# EAGLE library part IC_MAX6921 (library untitled)
20-outputs, 76V, serial VFD driver Dangerousprototypes.com
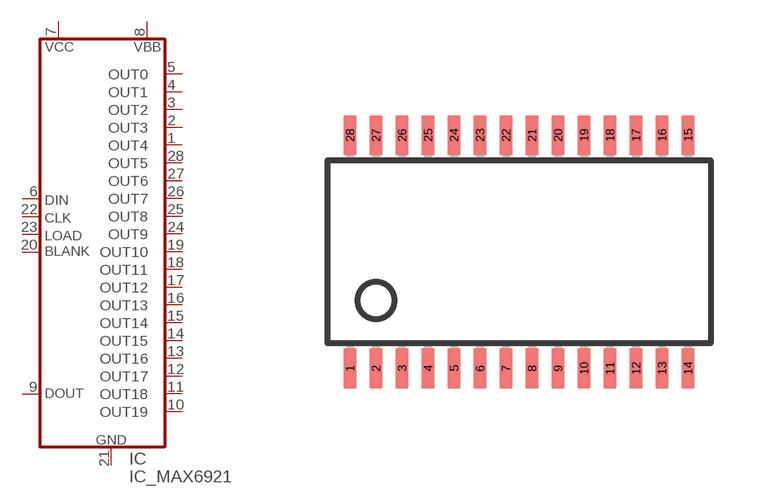
[diagram p25: symbol with the pads of TSSOP-28; footprint TSSOP-28]

Designator prefix IC

## IC_MAX6921-TSSOP28  [TSSOP-28]
1  OUT4  out
2  OUT3  out
3  OUT2  out
4  OUT1  out
5  OUT0  out
6  DIN  in
7  VCC  pwr
8  VBB  pwr
9  DOUT  out
10  OUT19  out
11  OUT18  out
12  OUT17  out
13  OUT16  out
14  OUT15  out
15  OUT14  out
16  OUT13  out
17  OUT12  out
18  OUT11  out
19  OUT10  out
20  BLANK  in
21  GND  pwr
22  CLK  in
23  LOAD  in
24  OUT9  out
25  OUT8  out
26  OUT7  out
27  OUT6  out
28  OUT5  out

## Footprint TSSOP-28 (pad centres in mm)
Thin Shrink Small Outline Plastic 28 (TSSOP28)
smd 0.305 x 0.991: 1 -4.225,-2.918; 2 -3.575,-2.918; 3 -2.925,-2.918; 4 -2.275,-2.918; 5 -1.625,-2.918; 6 -0.975,-2.918; 7 -0.325,-2.918; 8 0.325,-2.918; 9 0.975,-2.918; 10 1.625,-2.918; 11 2.275,-2.918; 12 2.925,-2.918; 13 3.575,-2.918; 14 4.225,-2.918; 15 4.225,2.918; 16 3.575,2.918; 17 2.925,2.918; 18 2.275,2.918; 19 1.625,2.918; 20 0.975,2.918; 21 0.325,2.918; 22 -0.325,2.918; 23 -0.975,2.918; 24 -1.625,2.918; 25 -2.275,2.918; 26 -2.925,2.918; 27 -3.575,2.918; 28 -4.225,2.918